# Altium schematic symbol library STMP10_Library(Youssef).SchLib: 2 symbols
Pins are listed as number, name and electrical type; pins without a type are passive.

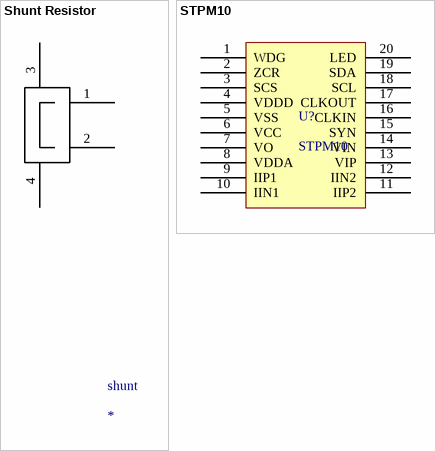
[diagram p0: symbols Shunt Resistor to STPM10]

## Shunt Resistor
designator shunt
pins: 1, 2, 3, 4

## STPM10
designator U?
pins: 1 WDG, 2 ZCR, 3 SCS, 4 VDDD, 5 VSS, 6 VCC, 7 VO, 8 VDDA, 9 IIP1, 10 IIN1, 11 IIP2, 12 IIN2, 13 VIP, 14 VIN, 15 SYN, 16 CLKIN, 17 CLKOUT, 18 SCL, 19 SDA, 20 LED